# Altium footprint library 4-in-1 ESC based on AM32.PcbLib: 5 footprints
Each footprint in its own frame and in the unit in brackets; x right, y up, seen from the top. Pads: shape width x height; smd on the part's side, far side on the other; paste and mask are expansions set on the pad; w line width, h text height; cw(c..) or ccw(c..) is an arc to the next point about the centre after c.
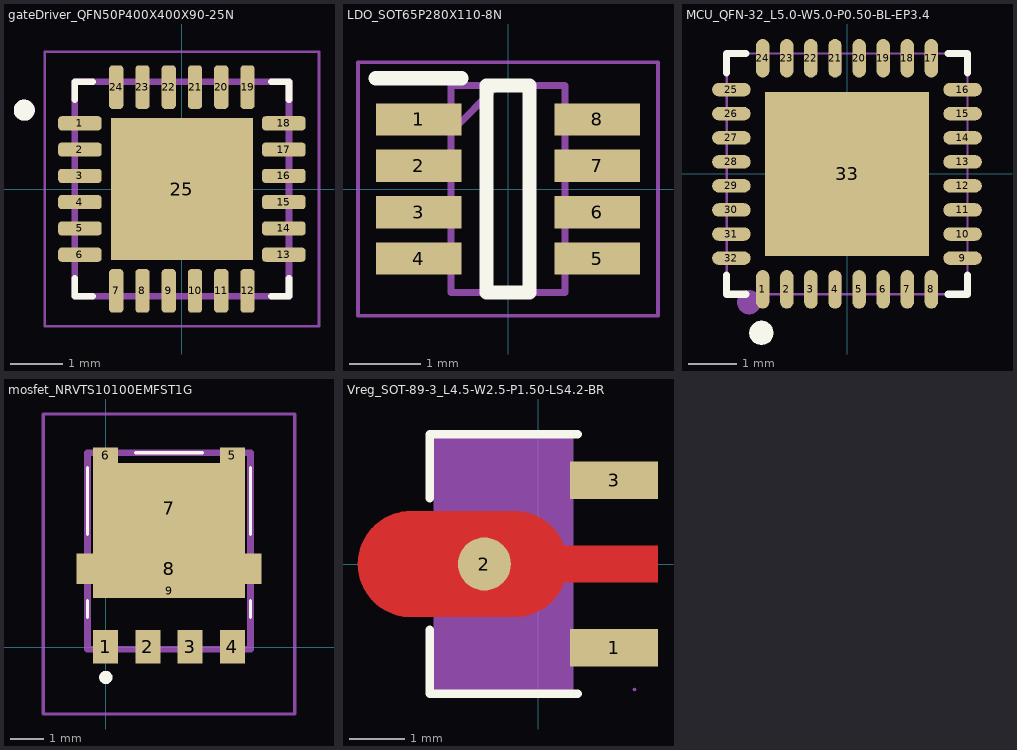
[diagram p0: the footprints below, top view; thin cyan lines are the x and y axes]

## gateDriver_QFN50P400X400X90-25N [mm]
pads (25):
  rrect50% 0.83x0.27 smd: 1(-1.94,1.25) 2(-1.94,0.75) 3(-1.94,0.25) 4(-1.94,-0.25) 5(-1.94,-0.75) 6(-1.94,-1.25) 13(1.94,-1.25) 14(1.94,-0.75) 15(1.94,-0.25) 16(1.94,0.25) 17(1.94,0.75) 18(1.94,1.25)
  rrect50% 0.27x0.83 smd: 7(-1.25,-1.94) 8(-0.75,-1.94) 9(-0.25,-1.94) 10(0.25,-1.94) 11(0.75,-1.94) 12(1.25,-1.94) 19(1.25,1.94) 20(0.75,1.94) 21(0.25,1.94) 22(-0.25,1.94) 23(-0.75,1.94) 24(-1.25,1.94)
  rect 2.7x2.7 smd paste-2: 25(0,0)
Top Overlay:
  circle w0.2: c-3,1.5 r0.1
  lines w0.127: -2.04,-1.7 -2.04,-2.04 -1.7,-2.04 ; -2.04,1.7 -2.04,2.04 -1.7,2.04 ; 1.7,-2.04 2.04,-2.04 2.04,-1.7 ; 1.7,2.04 2.04,2.04 2.04,1.7
Top Paste:
  region: -0.13,0.13 -1.09,0.13 -1.09,1.09 -0.13,1.09
  region: 1.09,0.13 0.13,0.13 0.13,1.09 1.09,1.09
  region: -0.13,-1.09 -1.09,-1.09 -1.09,-0.13 -0.13,-0.13
  region: 1.09,-1.09 0.13,-1.09 0.13,-0.13 1.09,-0.13
Mechanical 13:
  circle w0.2: c-3,1.5 r0.1
  lines w0.127: -2.04,-2.04 2.04,-2.04 2.04,2.04 -2.04,2.04 -2.04,-2.04
Mechanical 15:
  lines w0.05: -2.61,-2.61 2.61,-2.61 2.61,2.61 -2.61,2.61 -2.61,-2.61
3D body "step_temp.STEP": height 0.9, standoff 0, extent -2,-2 2,2

## LDO_SOT65P280X110-8N [mm]
pads (8):
  rect 1.2x0.45 smd: 1(-1.25,0.975) 2(-1.25,0.325) 3(-1.25,-0.325) 4(-1.25,-0.975) 5(1.25,-0.975) 6(1.25,-0.325) 7(1.25,0.325) 8(1.25,0.975)
Top Overlay:
  lines w0.2: -1.85,1.55 -0.65,1.55 ; -0.3,-1.45 0.3,-1.45 0.3,1.45 -0.3,1.45 -0.3,-1.45
Mechanical 13:
  lines w0.1: -0.8,0.8 -0.15,1.45 ; -0.8,-1.45 0.8,-1.45 0.8,1.45 -0.8,1.45 -0.8,-1.45
Mechanical 15:
  lines w0.05: -2.1,-1.775 2.1,-1.775 2.1,1.775 -2.1,1.775 -2.1,-1.775
3D body "SY8303AIC.stp": height 1.1, standoff 0, extent -1.4,-1.45 1.4,1.45

## MCU_QFN-32_L5.0-W5.0-P0.50-BL-EP3.4 [mil]
pads (33):
  oval 11x31.5 smd paste+0 mask+2: 1(-68.9,-94.5) 2(-49.2,-94.5) 3(-29.5,-94.5) 4(-9.8,-94.5) 5(9.9,-94.5) 6(29.6,-94.5) 7(49.3,-94.5) 8(68.9,-94.5) 17(68.9,94.5) 18(49.3,94.5) 19(29.6,94.5) 20(9.9,94.5) 21(-9.8,94.5) 22(-29.5,94.5) 23(-49.2,94.5) 24(-68.9,94.5)
  oval 31.5x11 smd paste+0 mask+2: 9(94.5,-68.9) 10(94.5,-49.2) 11(94.5,-29.5) 12(94.5,-9.8) 13(94.5,9.8) 14(94.5,29.5) 15(94.5,49.2) 16(94.5,68.9) 25(-94.5,68.9) 26(-94.5,49.2) 27(-94.5,29.5) 28(-94.5,9.8) 29(-94.5,-9.8) 30(-94.5,-29.5) 31(-94.5,-49.2) 32(-94.5,-68.9)
  rect 133.9x133.9 smd paste+0 mask+2: 33(0,0)
Top Overlay:
  lines w5.9: -98.4,-82.7 -98.4,-98.4 -82.6,-98.4 ; -98.4,82.7 -98.4,98.4 -82.6,98.4 ; 82.7,-98.4 98.5,-98.4 98.5,-82.7 ; 82.7,98.4 98.5,98.4 98.5,82.7
  lines w10: -75,-130 -74.6,-128.1 -73.5,-126.4 -71.9,-125.4 -70,-125 -68,-125.4 -66.4,-126.4 -65.3,-128.1 -65,-130 -65.3,-131.9 -66.4,-133.5 -68,-134.6 -70,-135 -71.9,-134.6 -73.5,-133.5 -74.6,-131.9 -75,-130
Mechanical 2:
  lines w10: -85,-105 -84.6,-103.1 -83.5,-101.4 -81.9,-100.4 -80,-100 -78,-100.4 -76.4,-101.4 -75.3,-103.1 -75,-105 -75.3,-106.9 -76.4,-108.5 -78,-109.6 -80,-110 -81.9,-109.6 -83.5,-108.5 -84.6,-106.9 -85,-105
Mechanical 6:
  lines w2: -98.4,-98.4 98.5,-98.4 98.5,98.4 -98.4,98.4 -98.4,-98.4
Mechanical 8:
  region: -96,-98.4 -96.4,-99.7 -97.4,-100.6 -98.7,-100.8 -99.9,-100.2 -100.7,-99.1 -100.7,-97.8 -99.9,-96.6 -98.7,-96.1 -97.4,-96.3 -96.4,-97.1
Mechanical 9:
  drawing of 33 lines, arcs and shapes, not listed

## mosfet_NRVTS10100EMFST1G [mm]
pads (9):
  rect 0.75x1 smd: 1(0,0.021) 2(1.27,0.021) 3(2.54,0.021) 4(3.81,0.021)
  rect 0.75x0.475 smd: 5(3.81,5.779) 6(0,5.779)
  rect 4.56x2.73 smd: 7(1.905,4.179)
  rect 5.55x0.91 smd: 8(1.905,2.364)
  rect 4.56x0.43 smd: 9(1.905,1.699)
Top Overlay:
  lines w0.1: -0.545,0.9 -0.545,1.4 ; -0.545,3.4 -0.545,5.4 ; 0.905,5.85 2.905,5.85 ; 4.355,0.9 4.355,1.4 ; 4.355,3.4 4.355,5.4
  lines w0.2: -0.095,-0.9 ccw(c0.005,-0.9) 0.105,-0.9 ccw(c0.005,-0.9) -0.095,-0.9
Mechanical 13:
  lines w0.2: -0.545,-0.05 4.355,-0.05 4.355,5.85 -0.545,5.85 -0.545,-0.05
Mechanical 15:
  lines w0.1: -1.87,-2 5.68,-2 5.68,7.017 -1.87,7.017 -1.87,-2
3D body "NTMFS5C430NLT1G.stp": height 1.1, standoff 0, extent -0.675,-0.185 4.475,5.965

## Vreg_SOT-89-3_L4.5-W2.5-P1.50-LS4.2-BR [mil]
pads (3):
  rect 62x26.5 smd paste+0 mask+2: 1(53.4,-59.1) 3(53.4,59)
  round 37.4 smd: 2(-38.1,0)
Top Layer:
  region: -89.9,37.4 -16.9,37.4 -15.2,37.3 -13.4,37.2 -11.7,37 -9.9,36.7 -8.2,36.3 -6.5,35.9 -4.9,35.4 -3.2,34.8 -1.6,34.1 0,33.3 1.5,32.5 3,31.6 4.5,30.6 5.9,29.6 7.3,28.5 8.6,27.3 9.8,26.1 11,24.8 12.2,23.5 13.2,22.1 14.2,20.7 15.2,19.2 16,17.6 16.8,16.1 17.6,13 84.4,13 84.4,-13 17.6,-13 16.8,-16.1 16,-17.7 15.2,-19.2 14.2,-20.7 13.2,-22.2 12.2,-23.5 11,-24.9 9.8,-26.2 8.6,-27.4 7.3,-28.6 5.9,-29.7 4.5,-30.7 3,-31.7 1.5,-32.6 0,-33.4 -1.6,-34.1 -3.2,-34.8 -4.9,-35.4 -6.5,-36 -8.2,-36.4 -9.9,-36.8 -11.7,-37.1 -13.4,-37.3 -15.2,-37.4 -16.9,-37.4 -89.9,-37.4 -91.7,-37.4 -93.4,-37.3 -95.2,-37.1 -96.9,-36.8 -98.6,-36.4 -100.3,-36 -102,-35.4 -103.6,-34.8 -105.2,-34.1 -106.8,-33.4 -108.4,-32.6 -109.9,-31.7 -111.3,-30.7 -112.7,-29.7 -114.1,-28.6 -115.4,-27.4 -116.7,-26.2 -117.9,-24.9 -119,-23.5 -120.1,-22.2 -121.1,-20.7 -122,-19.2 -122.9,-17.7 -123.7,-16.1 -124.4,-14.5 -125,-12.9 -125.6,-11.3 -126.1,-9.6 -126.5,-7.9 -126.8,-6.1 -127.1,-4.4 -127.2,-2.7 -127.3,-0.9 -127.3,0.8 -127.2,2.6 -127.1,4.3 -126.8,6.1 -126.5,7.8 -126.1,9.5 -125.6,11.2 -125,12.9 -124.4,14.5 -123.7,16.1 -122.9,17.6 -122,19.2 -121.1,20.7 -120.1,22.1 -119,23.5 -117.9,24.8 -116.7,26.1 -115.4,27.3 -114.1,28.5 -112.7,29.6 -111.3,30.6 -109.9,31.6 -108.4,32.5 -106.8,33.3 -105.2,34.1 -103.6,34.8 -102,35.4 -100.3,35.9 -98.6,36.3 -96.9,36.7 -95.2,37 -93.4,37.2 -91.7,37.3
Top Overlay:
  lines w6: -76.8,-46.4 -76.8,-91.6 27.6,-91.6 ; -76.8,46.3 -76.8,91.6 27.6,91.6
Mechanical 5:
  lines w11.8: 61.6,-59.1 ccw(c67.5,-59.1) 73.4,-59.1 ccw(c67.5,-59.1) 61.6,-59.1
Mechanical 9:
  region: -73.8,-88.6 -73.8,88.6 24.6,88.6 24.6,-88.6
Mechanical 11:
  region: 69,-88.6 68.7,-87.8 67.9,-87.4 67,-87.8 66.7,-88.6 67,-89.4 67.9,-89.8 68.7,-89.4
Mechanical 12:
  region: 24.5,68.9 67.9,68.9 67.9,49.2 24.5,49.2
  region: 24.5,-49.2 67.9,-49.2 67.9,-68.9 24.5,-68.9
  region: 17.3,-10.3 67.9,-10.3 67.9,10.2 17.3,10.2 -5.4,33.9 -78.8,33.9 -97.3,11.3 -97.3,-11.3 -78.8,-34 -5.4,-34